# Altium footprint library ds1069_3mvw6x.PcbLib: 1 footprints
Each footprint in its own frame and in the unit in brackets; x right, y up, seen from the top. Pads: shape width x height; smd on the part's side, far side on the other; paste and mask are expansions set on the pad; w line width, h text height; cw(c..) or ccw(c..) is an arc to the next point about the centre after c.
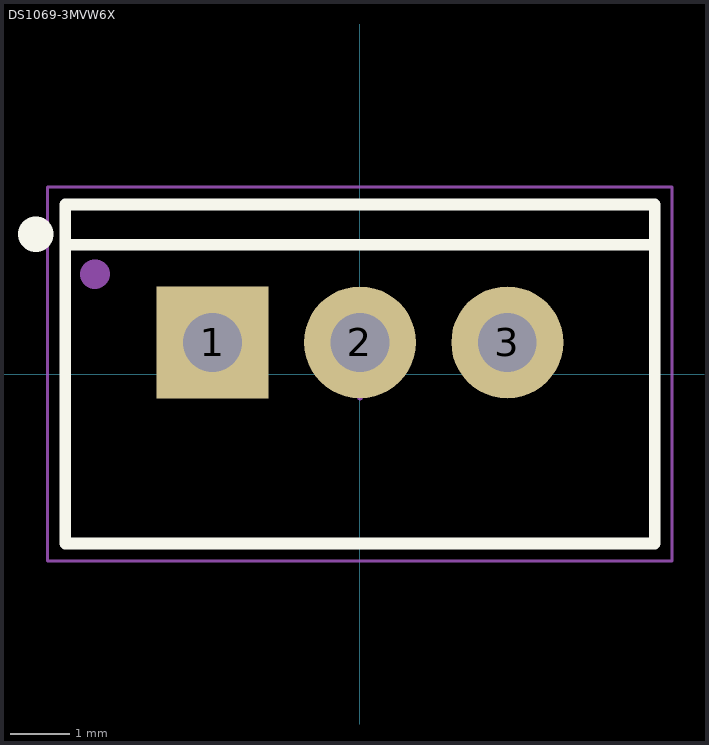
[diagram p0: the footprint, top view; thin cyan lines are the x and y axes]

## DS1069-3MVW6X [mm]
height 7
pads (3):
  rect 1.9x1.9 hole 1: 1(-2.499,0.537)
  round 1.9 hole 1: 2(0.001,0.537) 3(2.501,0.537)
Top Overlay:
  circle w0.6: c-5.5,2.375 r0.001
  lines w0.2: -5,2.192 5.003,2.192 ; -5,-2.875 -5,2.875 5.003,2.875 5.003,-2.875 -5,-2.875
Top Comment:
  text ".Comment" at 1,3.5 h1.2
Top Designator:
  text ".Designator" at -0.5,3.5 h1.2
Top Component Outline:
  lines w0.1: -5,2.192 5,2.192 ; -5,-2.875 -5,2.875 5,2.875 5,-2.875 -5,-2.875
  lines w0.5: -4.5,1.692 -4.495,1.697
Top Courtyard (Mech15):
  lines w0.05: -5.3,-3.175 -5.3,3.175 5.3,3.175 5.3,-3.175 -5.3,-3.175
  lines w0.1: -0.4,0 0.4,0 ; 0,-0.4 0,0.4
3D body "DS1069-3 (CWF-3).step": height 7, standoff -3.5, extent -5,-2.875 5,2.875